# Altium footprint library sm_cap.PcbLib: 36 footprints (part 2 of 3)
Each footprint in its own frame and in the unit in brackets; x right, y up, seen from the top. Pads: shape width x height; smd on the part's side, far side on the other; paste and mask are expansions set on the pad; w line width, h text height; cw(c..) or ccw(c..) is an arc to the next point about the centre after c.
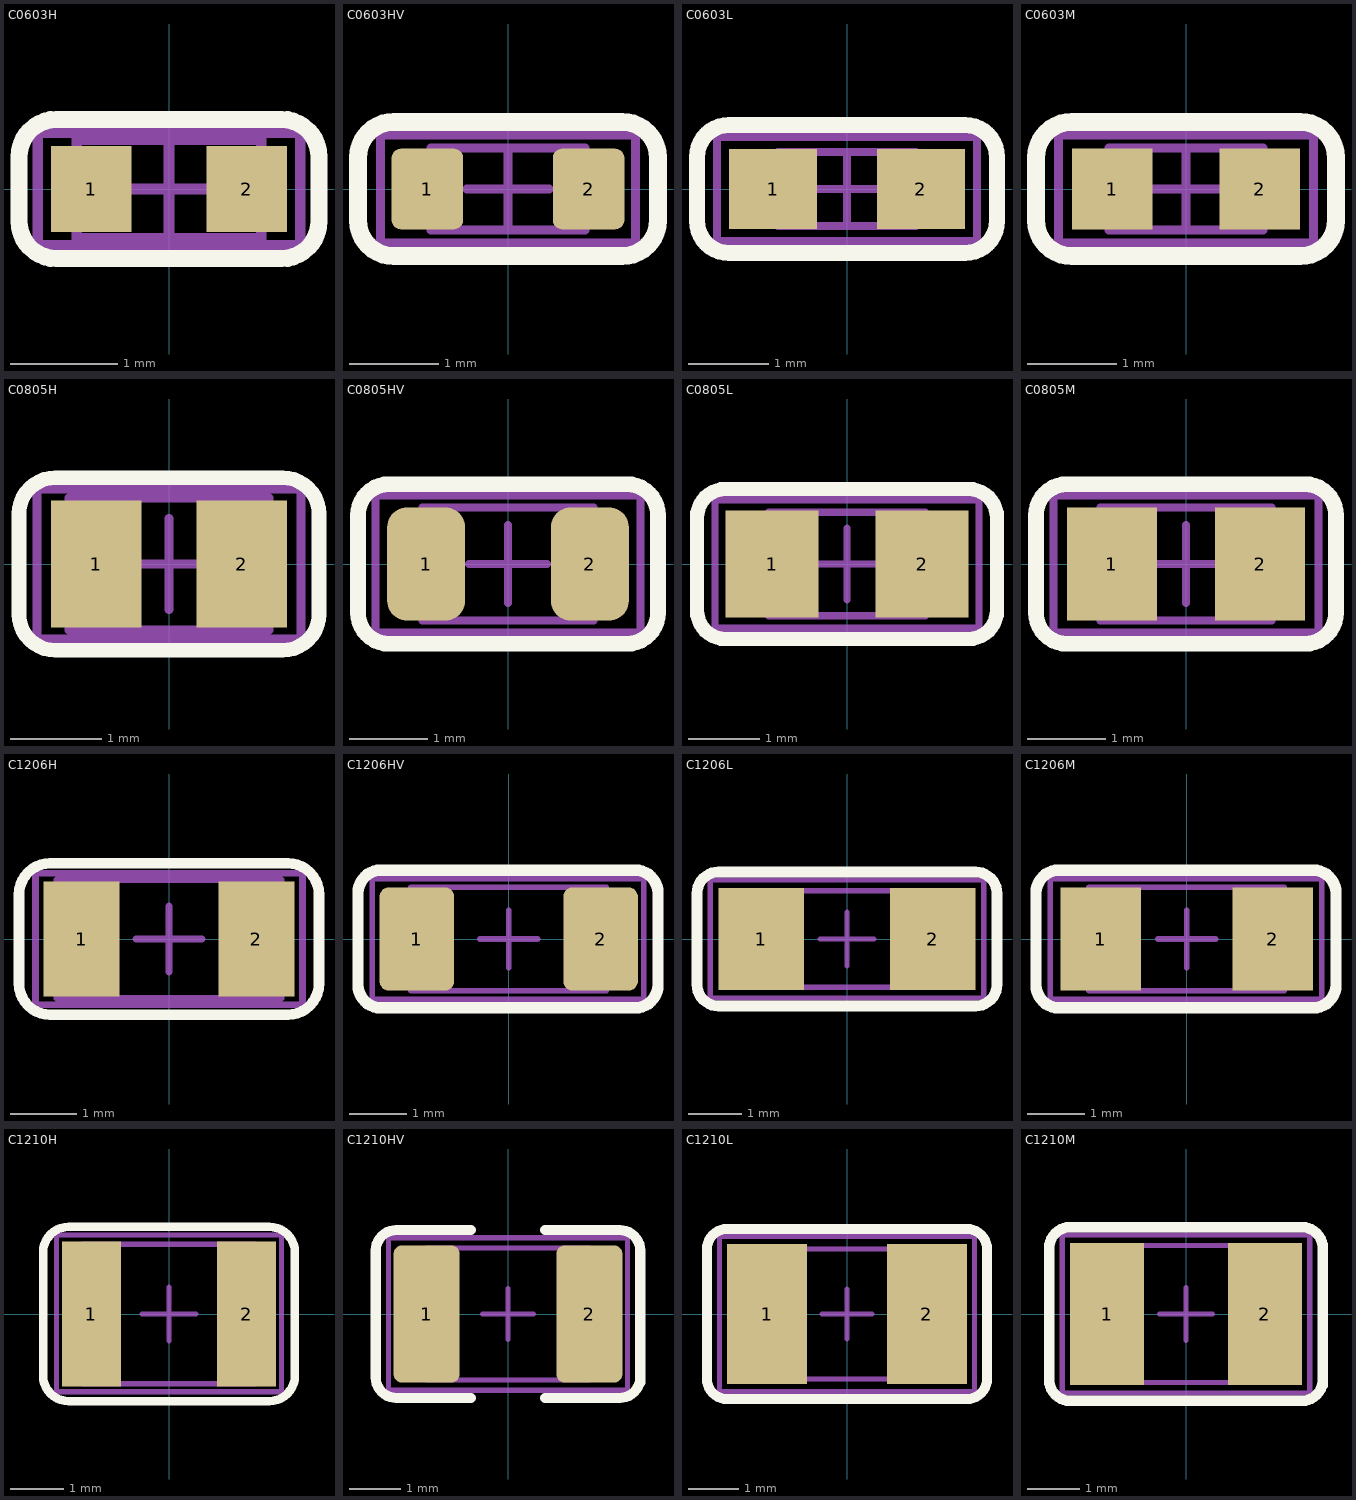
[diagram p1: the footprints below, top view; thin cyan lines are the x and y axes]

## C0603H [mm] "Chip Capacitor, 2-Leads, Body 1.6x0.8mm, IPC High Density"
height 0.92
pads (2):
  rect 0.75x0.8 smd: 1(-0.725,0) 2(0.725,0)
Top Overlay:
  lines w0.16: -1.4,-0.3 ccw(c-1.05,-0.3) -1.05,-0.65 1.05,-0.65 ccw(c1.05,-0.3) 1.4,-0.3 1.4,0.3 ccw(c1.05,0.3) 1.05,0.65 -1.05,0.65 ccw(c-1.05,0.3) -1.4,0.3 -1.4,-0.3
Mechanical 13:
  lines w0.1: -0.46,0 0.46,0 ; 0,-0.46 0,0.46 ; -0.86,-0.46 0.86,-0.46 0.86,0.46 -0.86,0.46 -0.86,-0.46
Mechanical 15:
  lines w0.1: -1.225,-0.525 1.225,-0.525 1.225,0.525 -1.225,0.525 -1.225,-0.525
  text ".Designator" at -1.075,-0.2 h0.5
3D body: height 0.82, standoff 0.01, extent -0.425,-0.412 0.425,0.413
3D body: height 0.85, standoff 0, extent -0.825,-0.425 -0.425,0.425
3D body: height 0.85, standoff 0, extent 0.425,-0.425 0.825,0.425

## C0603HV [mm] "Chip Capacitor, 2-Leads, Body 1.6x0.8mm, IPC High Voltage"
height 0.9
pads (2):
  rrect25% 0.8x0.9 smd: 1(-0.9,0) 2(0.9,0)
Top Overlay:
  lines w0.2: -1.675,-0.35 ccw(c-1.275,-0.35) -1.275,-0.75 1.275,-0.75 ccw(c1.275,-0.35) 1.675,-0.35 1.675,0.35 ccw(c1.275,0.35) 1.275,0.75 -1.275,0.75 ccw(c-1.275,0.35) -1.675,0.35 -1.675,-0.35
Mechanical 13:
  lines w0.1: -0.46,0 0.46,0 ; 0,-0.46 0,0.46 ; -0.86,-0.46 0.86,-0.46 0.86,0.46 -0.86,0.46 -0.86,-0.46
Mechanical 15:
  lines w0.1: -1.425,-0.6 -1.425,0.6 1.425,0.6 1.425,-0.6 -1.425,-0.6
  text ".Designator" at -1.225,-0.225 h0.5
3D body: height 0.82, standoff 0.01, extent -0.425,-0.412 0.425,0.413
3D body: height 0.85, standoff 0, extent -0.825,-0.425 -0.425,0.425
3D body: height 0.85, standoff 0, extent 0.425,-0.425 0.825,0.425

## C0603L [mm] "Chip Capacitor, 2-Leads, Body 1.6x0.8mm, IPC Low Density"
height 0.9
pads (2):
  rect 1.1x1 smd: 1(-0.925,0) 2(0.925,0)
Top Overlay:
  lines w0.2: -1.875,-0.4 ccw(c-1.475,-0.4) -1.475,-0.8 1.475,-0.8 ccw(c1.475,-0.4) 1.875,-0.4 1.875,0.4 ccw(c1.475,0.4) 1.475,0.8 -1.475,0.8 ccw(c-1.475,0.4) -1.875,0.4 -1.875,-0.4
Mechanical 13:
  lines w0.1: -0.46,0 0.46,0 ; 0,-0.46 0,0.46 ; -0.86,-0.46 -0.86,0.46 0.86,0.46 0.86,-0.46 -0.86,-0.46
Mechanical 15:
  lines w0.1: -1.625,-0.65 1.625,-0.65 1.625,0.65 -1.625,0.65 -1.625,-0.65
  text ".Designator" at -1.4,-0.225 h0.5
3D body: height 0.85, standoff 0, extent 0.425,-0.425 0.825,0.425
3D body: height 0.85, standoff 0, extent -0.825,-0.425 -0.425,0.425
3D body: height 0.82, standoff 0.01, extent -0.425,-0.412 0.425,0.413

## C0603M [mm] "Chip Capacitor, 2-Leads, Body 1.6x0.8mm, IPC Medium Density"
height 0.9
pads (2):
  rect 0.9x0.9 smd: 1(-0.825,0) 2(0.825,0)
Top Overlay:
  lines w0.2: -1.675,-0.35 ccw(c-1.275,-0.35) -1.275,-0.75 1.275,-0.75 ccw(c1.275,-0.35) 1.675,-0.35 1.675,0.35 ccw(c1.275,0.35) 1.275,0.75 -1.275,0.75 ccw(c-1.275,0.35) -1.675,0.35 -1.675,-0.35
Mechanical 13:
  lines w0.1: -0.46,0 0.46,0 ; 0,-0.46 0,0.46 ; -0.86,-0.46 0.86,-0.46 0.86,0.46 -0.86,0.46 -0.86,-0.46
Mechanical 15:
  lines w0.1: -1.425,-0.6 -1.425,0.6 1.425,0.6 1.425,-0.6 -1.425,-0.6
  text ".Designator" at -1.225,-0.225 h0.5
3D body: height 0.82, standoff 0.01, extent -0.425,-0.412 0.425,0.413
3D body: height 0.85, standoff 0, extent -0.825,-0.425 -0.425,0.425
3D body: height 0.85, standoff 0, extent 0.425,-0.425 0.825,0.425

## C0805H [mm] "Chip Capacitor, 2-Leads, Body 2.0x1.3mm, IPC High Density"
height 1.35
pads (2):
  rect 1x1.4 smd: 1(-0.8,0) 2(0.8,0)
Top Overlay:
  lines w0.16: -1.65,-0.55 ccw(c-1.25,-0.55) -1.25,-0.95 1.25,-0.95 ccw(c1.25,-0.55) 1.65,-0.55 1.65,0.55 ccw(c1.25,0.55) 1.25,0.95 -1.25,0.95 ccw(c-1.25,0.55) -1.65,0.55 -1.65,-0.525
Mechanical 13:
  lines w0.1: -0.5,0 0.5,0 ; 0,-0.5 0,0.5 ; -1.1,-0.725 -1.1,0.725 1.1,0.725 1.1,-0.725 -1.1,-0.725
Mechanical 15:
  lines w0.1: -1.45,-0.825 -1.45,0.825 1.45,0.825 1.45,-0.825 -1.45,-0.825
  text ".Designator" at -1.275,-0.1 h0.5
3D body: height 1.28, standoff 0.01, extent -0.425,-0.687 0.425,0.688
3D body: height 1.3, standoff 0, extent 0.425,-0.7 1.075,0.7
3D body: height 1.3, standoff 0, extent -1.075,-0.7 -0.425,0.7

## C0805HV [mm] "Chip Capacitor, 2-Leads, Body 2.0x1.3mm, IPC High Voltage"
height 1.35
pads (2):
  rrect50% 1x1.45 smd: 1(-1.05,0) 2(1.05,0)
Top Overlay:
  lines w0.2: 1.525,-1.025 ccw(c1.525,-0.625) 1.925,-0.625 1.925,0.625 ccw(c1.525,0.625) 1.525,1.025 ; 1.55,-1.025 -1.525,-1.025 cw(c-1.525,-0.625) -1.925,-0.625 -1.925,0.625 cw(c-1.525,0.625) -1.525,1.025 1.55,1.025
Mechanical 13:
  lines w0.1: -0.5,0 0.5,0 ; 0,-0.5 0,0.5 ; -1.1,-0.725 -1.1,0.725 1.1,0.725 1.1,-0.725 -1.1,-0.725
Mechanical 15:
  lines w0.1: -1.7,-0.875 -1.7,0.875 1.7,0.875 1.7,-0.875 -1.7,-0.875
  text ".Designator" at -1.275,-0.1 h0.5
3D body: height 1.28, standoff 0.01, extent -0.425,-0.687 0.425,0.688
3D body: height 1.3, standoff 0, extent 0.425,-0.7 1.075,0.7
3D body: height 1.3, standoff 0, extent -1.075,-0.7 -0.425,0.7

## C0805L [mm] "Chip Capacitor, 2-Leads, Body 2.0x1.3mm, IPC Low Density"
height 1.35
pads (2):
  rect 1.3x1.5 smd: 1(-1.05,0) 2(1.05,0)
Top Overlay:
  lines w0.2: -2.1,-0.65 ccw(c-1.7,-0.65) -1.7,-1.05 1.7,-1.05 ccw(c1.7,-0.65) 2.1,-0.65 2.1,0.65 ccw(c1.7,0.65) 1.7,1.05 -1.7,1.05 ccw(c-1.7,0.65) -2.1,0.65 -2.1,-0.65
Mechanical 13:
  lines w0.1: -0.5,0 0.5,0 ; 0,-0.5 0,0.5 ; -1.1,-0.725 -1.1,0.725 1.1,0.725 1.1,-0.725 -1.1,-0.725
Mechanical 15:
  lines w0.1: -1.85,-0.9 -1.85,0.9 1.85,0.9 1.85,-0.9 -1.85,-0.9
  text ".Designator" at -1.275,-0.1 h0.5
3D body: height 1.28, standoff 0.01, extent -0.425,-0.687 0.425,0.688
3D body: height 1.3, standoff 0, extent 0.425,-0.7 1.075,0.7
3D body: height 1.3, standoff 0, extent -1.075,-0.7 -0.425,0.7

## C0805M [mm] "Chip Capacitor, 2-Leads, Body 2.0x1.3mm, IPC Medium Density"
height 1.35
pads (2):
  rect 1.15x1.45 smd: 1(-0.95,0) 2(0.95,0)
Top Overlay:
  lines w0.2: 1.525,-1.025 ccw(c1.525,-0.625) 1.925,-0.625 1.925,0.625 ccw(c1.525,0.625) 1.525,1.025 ; 1.55,-1.025 -1.525,-1.025 cw(c-1.525,-0.625) -1.925,-0.625 -1.925,0.625 cw(c-1.525,0.625) -1.525,1.025 1.55,1.025
Mechanical 13:
  lines w0.1: -0.5,0 0.5,0 ; 0,-0.5 0,0.5 ; -1.1,-0.725 -1.1,0.725 1.1,0.725 1.1,-0.725 -1.1,-0.725
Mechanical 15:
  lines w0.1: -1.7,-0.875 -1.7,0.875 1.7,0.875 1.7,-0.875 -1.7,-0.875
  text ".Designator" at -1.275,-0.1 h0.5
3D body: height 1.28, standoff 0.01, extent -0.425,-0.687 0.425,0.688
3D body: height 1.3, standoff 0, extent 0.425,-0.7 1.075,0.7
3D body: height 1.3, standoff 0, extent -1.075,-0.7 -0.425,0.7

## C1206H [mm] "Chip Capacitor, 2-Leads, Body 3.2x1.6mm, IPC High Density"
height 1.6
pads (2):
  rect 1.15x1.75 smd: 1(-1.325,0) 2(1.325,0)
Top Overlay:
  lines w0.16: -2.275,-0.675 ccw(c-1.8,-0.675) -1.8,-1.15 1.8,-1.15 ccw(c1.8,-0.675) 2.275,-0.675 2.275,0.675 ccw(c1.8,0.675) 1.8,1.15 -1.8,1.15 ccw(c-1.8,0.675) -2.275,0.675 -2.275,-0.675
Mechanical 13:
  lines w0.1: -0.5,0 0.5,0 ; 0,-0.5 0,0.5 ; -1.7,-0.9 1.7,-0.9 1.7,0.9 -1.7,0.9 -1.7,-0.9
Mechanical 15:
  lines w0.1: -2.025,-1 2.025,-1 2.025,1 -2.025,1 -2.025,-1
  text ".Designator" at -1.6,-0.125 h0.5
3D body: height 1.6, standoff 0, extent -1.6,-0.8 -1,0.8
3D body: height 1.6, standoff 0, extent 1,-0.8 1.6,0.8
3D body: height 1.58, standoff 0.01, extent -1,-0.794 1,0.794

## C1206HV [mm] "Chip Capacitor, 2-Leads, Body 3.2x1.6mm, IPC High Voltage"
height 1.7
pads (2):
  rrect25% 1.3x1.8 smd: 1(-1.6,0) 2(1.6,0)
Top Overlay:
  lines w0.2: -2.625,-0.8 ccw(c-2.225,-0.8) -2.225,-1.2 2.2,-1.2 ccw(c2.2,-0.8) 2.6,-0.8 2.6,0.8 ccw(c2.2,0.8) 2.2,1.2 -2.225,1.2 ccw(c-2.225,0.8) -2.625,0.8 -2.625,-0.8
Mechanical 13:
  lines w0.1: -0.5,0 0.5,0 ; 0,-0.5 0,0.5 ; -1.7,-0.9 1.7,-0.9 1.7,0.9 -1.7,0.9 -1.7,-0.9
Mechanical 15:
  lines w0.1: -2.375,-1.05 2.35,-1.05 2.35,1.05 -2.375,1.05 -2.375,-1.05
  text ".Designator" at -1.6,-0.125 h0.5
3D body: height 1.6, standoff 0, extent -1.6,-0.8 -1,0.8
3D body: height 1.6, standoff 0, extent 1,-0.8 1.6,0.8
3D body: height 1.58, standoff 0.01, extent -1,-0.794 1,0.794

## C1206L [mm] "Chip Capacitor, 2-Leads, Body 3.2x1.6mm, IPC Low Density"
height 1.7
pads (2):
  rect 1.6x1.9 smd: 1(-1.6,0) 2(1.6,0)
Top Overlay:
  lines w0.2: -2.8,-0.85 ccw(c-2.4,-0.85) -2.4,-1.25 2.4,-1.25 ccw(c2.4,-0.85) 2.8,-0.85 2.8,0.85 ccw(c2.4,0.85) 2.4,1.25 -2.4,1.25 ccw(c-2.4,0.85) -2.8,0.85 -2.8,-0.85
Mechanical 13:
  lines w0.1: -0.5,0 0.5,0 ; 0,-0.5 0,0.5 ; -1.7,-0.9 -1.7,0.9 1.7,0.9 1.7,-0.9 -1.7,-0.9
Mechanical 15:
  lines w0.1: -2.55,-1.1 -2.55,1.1 2.55,1.1 2.55,-1.1 -2.55,-1.1
  text ".Designator" at -1.6,-0.125 h0.5
3D body: height 1.58, standoff 0.01, extent -1,-0.794 1,0.794
3D body: height 1.6, standoff 0, extent 1,-0.8 1.6,0.8
3D body: height 1.6, standoff 0, extent -1.6,-0.8 -1,0.8

## C1206M [mm] "Chip Capacitor, 2-Leads, Body 3.2x1.6mm, IPC Medium Density"
height 1.7
pads (2):
  rect 1.4x1.8 smd: 1(-1.5,0) 2(1.5,0)
Top Overlay:
  lines w0.2: -2.625,-0.8 ccw(c-2.225,-0.8) -2.225,-1.2 2.2,-1.2 ccw(c2.2,-0.8) 2.6,-0.8 2.6,0.8 ccw(c2.2,0.8) 2.2,1.2 -2.225,1.2 ccw(c-2.225,0.8) -2.625,0.8 -2.625,-0.8
Mechanical 13:
  lines w0.1: -0.5,0 0.5,0 ; 0,-0.5 0,0.5 ; -1.7,-0.9 1.7,-0.9 1.7,0.9 -1.7,0.9 -1.7,-0.9
Mechanical 15:
  lines w0.1: -2.375,-1.05 2.35,-1.05 2.35,1.05 -2.375,1.05 -2.375,-1.05
  text ".Designator" at -1.6,-0.125 h0.5
3D body: height 1.6, standoff 0, extent -1.6,-0.8 -1,0.8
3D body: height 1.6, standoff 0, extent 1,-0.8 1.6,0.8
3D body: height 1.58, standoff 0.01, extent -1,-0.794 1,0.794

## C1210H [mm] "Chip Capacitor, 2-Leads, Body 3.2x2.5mm, IPC High Density"
height 1.6
pads (2):
  rect 1.1x2.7 smd: 1(-1.45,0) 2(1.45,0)
Top Overlay:
  lines w0.16: -2.35,-1.15 ccw(c-1.875,-1.15) -1.875,-1.625 1.875,-1.625 ccw(c1.875,-1.15) 2.35,-1.15 2.35,1.15 ccw(c1.875,1.15) 1.875,1.625 -1.875,1.625 ccw(c-1.875,1.15) -2.35,1.15 -2.35,-1.15
Mechanical 13:
  lines w0.1: -0.5,0 0.5,0 ; 0,-0.5 0,0.5 ; -1.6,-1.3 -1.6,1.3 1.6,1.3 1.6,-1.3 -1.6,-1.3
Mechanical 15:
  lines w0.1: -2.1,-1.45 -2.1,1.475 2.1,1.475 2.1,-1.45 -2.1,-1.45
  text ".Designator" at -1.6,-0.125 h0.5
3D body: height 2.2, standoff 0, extent -1.6,-1.3 -1,1.3
3D body: height 2.2, standoff 0, extent 1,-1.3 1.6,1.3
3D body: height 2.17, standoff 0.01, extent -1,-1.288 1,1.288

## C1210HV [mm] "Chip Capacitor, 2-Leads, Body 3.2x2.5mm, IPC High Voltage"
height 1.6
pads (2):
  rrect25% 1.3x2.7 smd: 1(-1.6,0) 2(1.6,0)
Top Overlay:
  lines w0.2: -0.725,-1.65 -2.2,-1.65 cw(c-2.2,-1.25) -2.6,-1.25 -2.6,1.25 cw(c-2.2,1.25) -2.2,1.65 -0.725,1.65 ; 0.725,-1.65 2.2,-1.65 ccw(c2.2,-1.25) 2.6,-1.25 ; 0.725,1.65 2.2,1.65 cw(c2.2,1.25) 2.6,1.25 2.6,-1.35
Mechanical 13:
  lines w0.1: -0.5,0 0.5,0 ; 0,-0.5 0,0.5 ; -1.6,-1.3 1.6,-1.3 1.6,1.3 -1.6,1.3 -1.6,-1.3
Mechanical 15:
  lines w0.1: -2.35,-1.5 2.35,-1.5 2.35,1.5 -2.35,1.5 -2.35,-1.5
  text ".Designator" at -1.6,-0.125 h0.8
3D body: height 2.17, standoff 0.01, extent -1,-1.288 1,1.288
3D body: height 2.2, standoff 0, extent 1,-1.3 1.6,1.3
3D body: height 2.2, standoff 0, extent -1.6,-1.3 -1,1.3

## C1210L [mm] "Chip Capacitor, 2-Leads, Body 3.2x2.5mm, IPC Low Density"
height 1.6
pads (2):
  rect 1.6x2.8 smd: 1(-1.6,0) 2(1.6,0)
Top Overlay:
  lines w0.2: -2.8,-1.3 ccw(c-2.4,-1.3) -2.4,-1.7 2.4,-1.7 ccw(c2.4,-1.3) 2.8,-1.3 2.8,1.3 ccw(c2.4,1.3) 2.4,1.7 -2.4,1.7 ccw(c-2.4,1.3) -2.8,1.3 -2.8,-1.3
Mechanical 13:
  lines w0.1: -0.5,0 0.5,0 ; 0,-0.5 0,0.5 ; -1.6,-1.3 -1.6,1.3 1.6,1.3 1.6,-1.3 -1.6,-1.3
Mechanical 15:
  lines w0.1: -2.55,-1.55 -2.55,1.55 2.55,1.55 2.55,-1.55 -2.55,-1.55
  text ".Designator" at -1.6,-0.125 h0.5
3D body: height 2.2, standoff 0, extent -1.6,-1.3 -1,1.3
3D body: height 2.2, standoff 0, extent 1,-1.3 1.6,1.3
3D body: height 2.17, standoff 0.01, extent -1,-1.288 1,1.288

## C1210M [mm] "Chip Capacitor, 2-Leads, Body 3.2x2.5mm, IPC Medium Density"
height 1.6
pads (2):
  rect 1.4x2.7 smd: 1(-1.5,0) 2(1.5,0)
Top Overlay:
  lines w0.2: 2.6,-1.35 2.6,1.25 ccw(c2.2,1.25) 2.2,1.65 -2.2,1.65 ccw(c-2.2,1.25) -2.6,1.25 -2.6,-1.25 ccw(c-2.2,-1.25) -2.2,-1.65 2.2,-1.65 ccw(c2.2,-1.25) 2.6,-1.25
Mechanical 13:
  lines w0.1: -0.5,0 0.5,0 ; 0,-0.5 0,0.5 ; -1.6,-1.3 1.6,-1.3 1.6,1.3 -1.6,1.3 -1.6,-1.3
Mechanical 15:
  lines w0.1: -2.35,-1.5 2.35,-1.5 2.35,1.5 -2.35,1.5 -2.35,-1.5
  text ".Designator" at -1.6,-0.125 h0.5
3D body: height 2.17, standoff 0.01, extent -1,-1.288 1,1.288
3D body: height 2.2, standoff 0, extent 1,-1.3 1.6,1.3
3D body: height 2.2, standoff 0, extent -1.6,-1.3 -1,1.3